# EAGLE library part STECKER_MICROMATCH_6 (library robo_ag)
MicroMatch 6
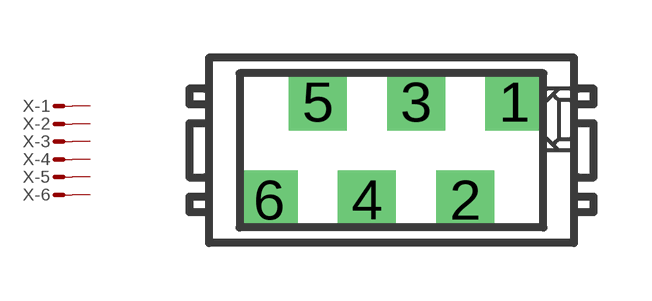
[diagram p17: symbol with the pads of STECKER_MICROMATCH_6; footprint STECKER_MICROMATCH_6]

Designator prefix X; gates -2=M -3=M -4=M -1=M -5=M -6=M

## STECKER_MICROMATCH_6  [STECKER_MICROMATCH_6]
1  -1:S  pas
2  -2:S  pas
3  -3:S  pas
4  -4:S  pas
5  -5:S  pas
6  -6:S  pas

## Footprint STECKER_MICROMATCH_6 (pad centres in mm)
Micro Match [reichelt.de] "MM FL 4G": 4x "MM SL 4SK": passendes Gegenstück
drill 0.813 pad 1.5 square: 1 3.175,1.27; 2 1.905,-1.27; 3 0.635,1.27; 4 -0.635,-1.27; 5 -1.905,1.27; 6 -3.175,-1.27